# EAGLE library part ML10 (library BSB-LAN)
HARTING
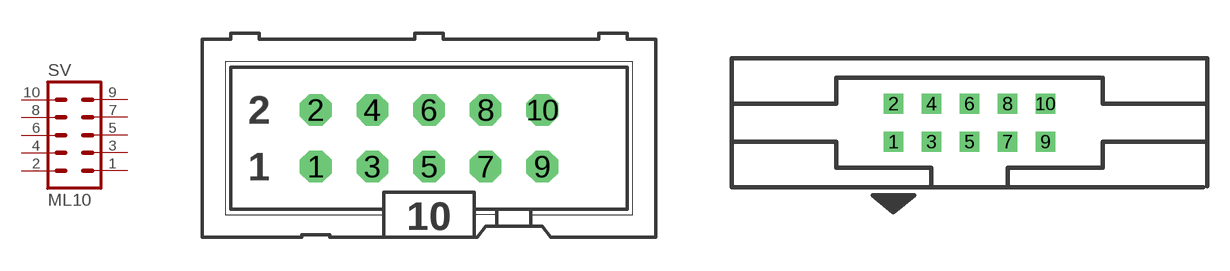
[diagram p0: symbol with the pads of ML10; footprints ML10, 3M_10]

Designator prefix SV

## ML10 (LCSC_PART: C5665)  [ML10]
1  1  pas
2  2  pas
3  3  pas
4  4  pas
5  5  pas
6  6  pas
7  7  pas
8  8  pas
9  9  pas
10  10  pas

## ML10-3M (OC_FARNELL: unknown; OC_NEWARK: unknown)  [3M_10]
Pads as for ML10

## ML10-3ML (OC_FARNELL: unknown; OC_NEWARK: unknown)  [3M_10L]
Pads as for ML10

## ML10-SMD  [ML10-SMD]
Pads as for ML10

## ML10F  [ML10F]
Pads as for ML10

## ML10L (OC_FARNELL: unknown; OC_NEWARK: unknown)  [ML10L]
Pads as for ML10

## Footprint ML10 (pad centres in mm)
HARTING
drill 0.914 octagon: 1 -5.08,-1.27; 2 -5.08,1.27; 3 -2.54,-1.27; 4 -2.54,1.27; 5 0,-1.27; 6 0,1.27; 7 2.54,-1.27; 8 2.54,1.27; 9 5.08,-1.27; 10 5.08,1.27

## Footprint 3M_10 (pad centres in mm)
3M
drill 0.813 square: 1 -5.08,-1.27; 2 -5.08,1.27; 3 -2.54,-1.27; 4 -2.54,1.27; 5 0,-1.27; 6 0,1.27; 7 2.54,-1.27; 8 2.54,1.27; 9 5.08,-1.27; 10 5.08,1.27

## Footprint 3M_10L (pad centres in mm)
3M
drill 0.813 square: 1 -5.08,-5.08; 2 -5.08,-2.54; 3 -2.54,-5.08; 4 -2.54,-2.54; 5 0,-5.08; 6 0,-2.54; 7 2.54,-5.08; 8 2.54,-2.54; 9 5.08,-5.08; 10 5.08,-2.54
hole 2.54 at -10.998,-3.277
hole 2.54 at 10.998,-3.277

## Footprint ML10-SMD (pad centres in mm)
smd 3.937 x 1.016: 1 -2.901,5.08; 2 2.901,5.08; 3 -2.901,2.54; 4 2.901,2.54; 5 -2.901,0; 6 2.901,0; 7 -2.901,-2.54; 8 2.901,-2.54; 9 -2.901,-5.08; 10 2.901,-5.08

## Footprint ML10F (pad centres in mm)
HARTING
drill 1.2 octagon: 1 -5.08,1.27; 2 -5.08,-1.27; 3 -2.54,1.27; 4 -2.54,-1.27; 5 0,1.27; 6 0,-1.27; 7 2.54,1.27; 8 2.54,-1.27; 9 5.08,1.27; 10 5.08,-1.27

## Footprint ML10L (pad centres in mm)
HARTING
drill 0.914 octagon: 1 -5.08,-1.27; 2 -5.08,1.27; 3 -2.54,-1.27; 4 -2.54,1.27; 5 0,-1.27; 6 0,1.27; 7 2.54,-1.27; 8 2.54,1.27; 9 5.08,-1.27; 10 5.08,1.27